# EAGLE library part M04X2 (library AIC_Custom)
2x4 .1" header. Top & Bottom Mounting Versions
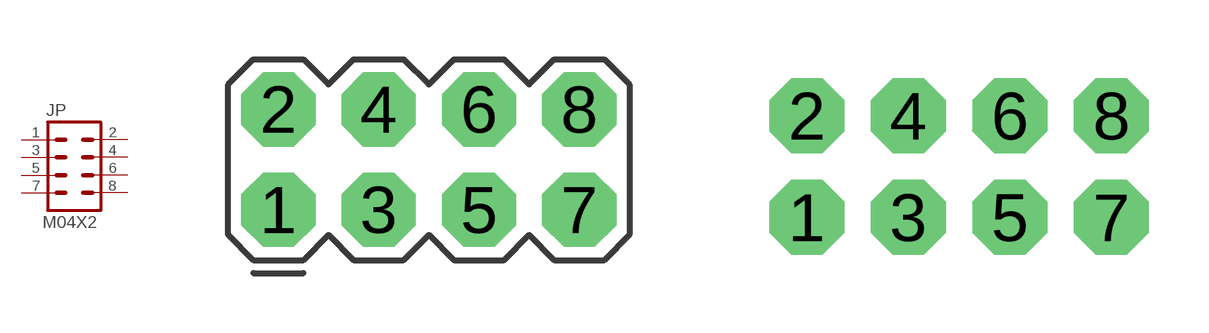
[diagram p14: symbol with the pads of 2X4_TOP; footprints 2X4_TOP, 2X4_BOTTOM]

Designator prefix JP

## M04X2TOP  [2X4_TOP]
1  1  pas
2  2  pas
3  3  pas
4  4  pas
5  5  pas
6  6  pas
7  7  pas
8  8  pas

## M04X2BOTTOM  [2X4_BOTTOM]
Pads as for 2X4_TOP

## Footprint 2X4_TOP (pad centres in mm)
Header 2x4 with pin 1 marked, top mounting
drill 1.016 pad 1.88 octagon: 1 -3.81,-1.27; 2 -3.81,1.27; 3 -1.27,-1.27; 4 -1.27,1.27; 5 1.27,-1.27; 6 1.27,1.27; 7 3.81,-1.27; 8 3.81,1.27

## Footprint 2X4_BOTTOM (pad centres in mm)
Header 2x4 with pin 1 marked, bottom mounting
drill 1.016 pad 1.88 octagon: 1 -3.81,-1.27; 2 -3.81,1.27; 3 -1.27,-1.27; 4 -1.27,1.27; 5 1.27,-1.27; 6 1.27,1.27; 7 3.81,-1.27; 8 3.81,1.27